# EAGLE library part BM13B-NSHSS-TBT (library NSH)
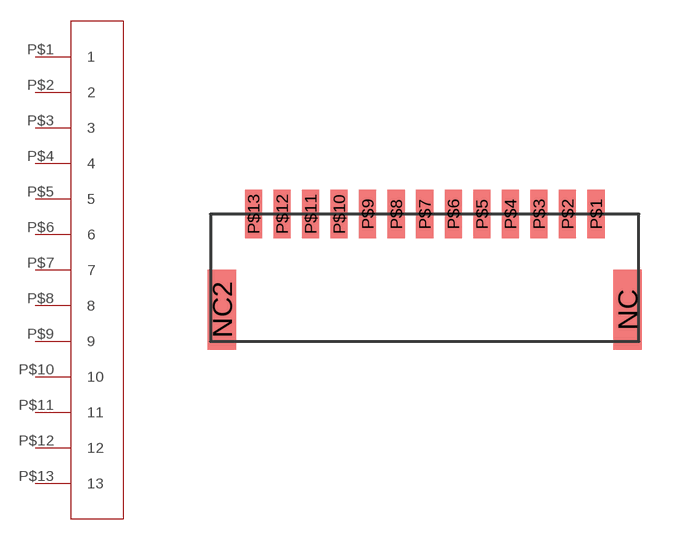
[diagram p7: symbol with the pads of BM13B-NSHSS-TBT; footprint BM13B-NSHSS-TBT]

Designator prefix -

## BM13B-NSHSS-TBT  [BM13B-NSHSS-TBT]
P$1  1
P$2  2
P$3  3
P$4  4
P$5  5
P$6  6
P$7  7
P$8  8
P$9  9
P$10  10
P$11  11
P$12  12
P$13  13

## Footprint BM13B-NSHSS-TBT (pad centres in mm)
smd 1 x 2.8: NC 7.1,1.4; NC2 -7.1,1.4
smd 0.6 x 1.7: P$1 6,4.75; P$2 5,4.75; P$3 4,4.75; P$4 3,4.75; P$5 2,4.75; P$6 1,4.75; P$7 0,4.75; P$8 -1,4.75; P$9 -2,4.75; P$10 -3,4.75; P$11 -4,4.75; P$12 -5,4.75; P$13 -6,4.75